# Altium schematic symbol library RF-UNIT.SchLib: 485 symbols (part 1 of 2)
Pins are listed as number, name and electrical type; pins without a type are passive.

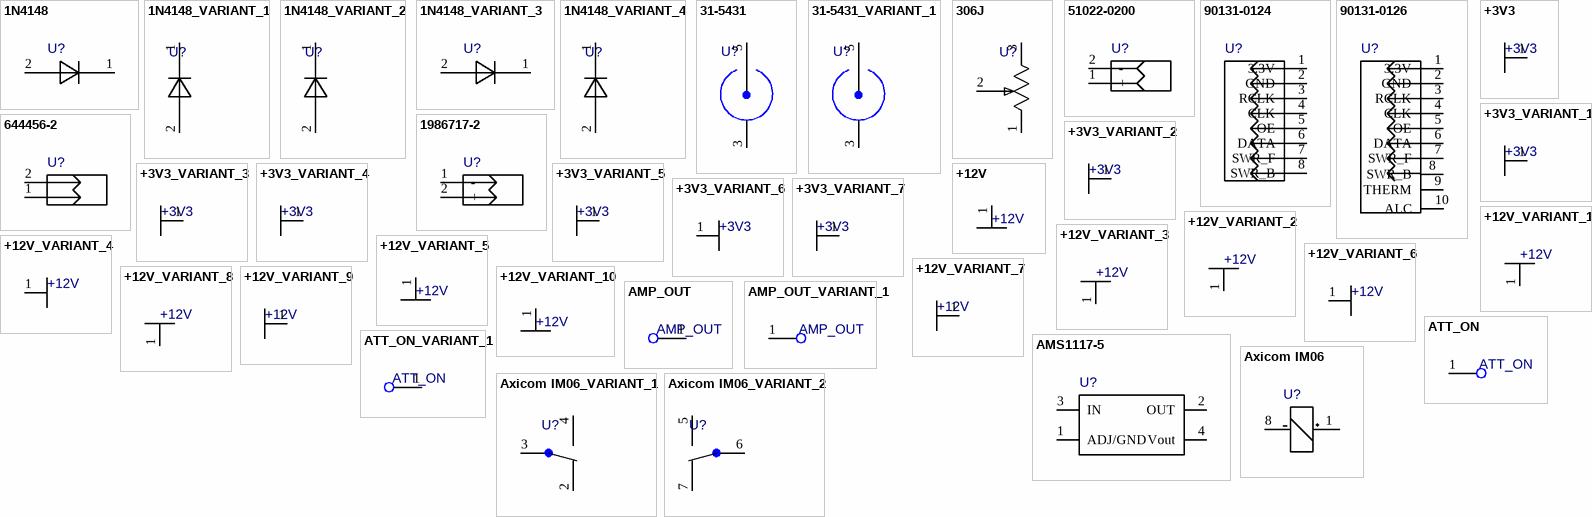
[diagram p0: symbols 1N4148 to Axicom IM06_VARIANT_2]

## 1N4148
designator U?  (value not drawn)
Value: *
footprint SS14
pins: 1 K, 2 A

## 1N4148_VARIANT_1
designator U?, comment 1N4148  (value not drawn)
1N4148_VARIANT_1; Value: *
footprint DIO_1206
pins: 1 K, 2 A

## 1N4148_VARIANT_2
designator U?, comment 1N4148  (value not drawn)
1N4148_VARIANT_2; Value: *
footprint DIO_1206
pins: 1 K, 2 A

## 1N4148_VARIANT_3
designator U?, comment 1N4148  (value not drawn)
1N4148_VARIANT_3; Value: *
footprint DIO_1206
pins: 1 K, 2 A

## 1N4148_VARIANT_4
designator U?, comment 1N4148  (value not drawn)
1N4148_VARIANT_4; Value: *
footprint DIO_1206
pins: 1 K, 2 A

## 31-5431
designator U?  (value not drawn)
Value: *
footprint 1053354-1
pins: 3 GND, 5 CON

## 31-5431_VARIANT_1
designator U?, comment 31-5431  (value not drawn)
31-5431_VARIANT_1; Value: *
footprint 1053354-1
pins: 3 GND, 5 CON

## 306J
designator U?  (value not drawn)
Value: *
footprint 306J
pins: 1 CCW, 2 W, 3 CW

## 51022-0200
designator U?  (value not drawn)
Value: *
footprint HDR-1x2T/2.54/5x2
pins: 1 +, 2 -

## 90131-0124
designator U?  (value not drawn)
Value: *
footprint HDR-2x4T/2.54x2.54/10x5
pins: 1 3.3V, 2 GND, 3 RCLK, 4 CLK, 5 OE, 6 DATA, 7 SWR_F, 8 SWR_B

## 90131-0126
designator U?  (value not drawn)
Value: *
footprint 90131-0126
pins: 1 3.3V, 2 GND, 3 RCLK, 4 CLK, 5 OE, 6 DATA, 7 SWR_F, 8 SWR_B, 9 THERM, 10 ALC

## 644456-2
designator U?  (value not drawn)
Value: *
footprint HDR-1x2T/2.54/5x2
pins: 1 P1, 2 P2

## 1986717-2
designator U?  (value not drawn)
Value: *
footprint TBH-1x2/3.81/8x3
pins: 1 -, 2 +

## +3V3
designator U?
Value: *
pins: 1 +3V3

## +3V3_VARIANT_1
designator U?, comment +3V3
+3V3_VARIANT_1; Value: *
pins: 1 +3V3

## +3V3_VARIANT_2
designator U?, comment +3V3
+3V3_VARIANT_2; Value: *
pins: 1 +3V3

## +3V3_VARIANT_3
designator U?, comment +3V3
+3V3_VARIANT_3; Value: *
pins: 1 +3V3

## +3V3_VARIANT_4
designator U?, comment +3V3
+3V3_VARIANT_4; Value: *
pins: 1 +3V3

## +3V3_VARIANT_5
designator U?, comment +3V3
+3V3_VARIANT_5; Value: *
pins: 1 +3V3

## +3V3_VARIANT_6
designator U?, comment +3V3
+3V3_VARIANT_6; Value: *
pins: 1 +3V3

## +3V3_VARIANT_7
designator U?, comment +3V3
+3V3_VARIANT_7; Value: *
pins: 1 +3V3

## +12V
designator U?
Value: *
pins: 1 +12V

## +12V_VARIANT_1
designator U?, comment +12V
+12V_VARIANT_1; Value: *
pins: 1 +12V

## +12V_VARIANT_2
designator U?, comment +12V
+12V_VARIANT_2; Value: *
pins: 1 +12V

## +12V_VARIANT_3
designator U?, comment +12V
+12V_VARIANT_3; Value: *
pins: 1 +12V

## +12V_VARIANT_4
designator U?, comment +12V
+12V_VARIANT_4; Value: *
pins: 1 +12V

## +12V_VARIANT_5
designator U?, comment +12V
+12V_VARIANT_5; Value: *
pins: 1 +12V

## +12V_VARIANT_6
designator U?, comment +12V
+12V_VARIANT_6; Value: *
pins: 1 +12V

## +12V_VARIANT_7
designator U?, comment +12V
+12V_VARIANT_7; Value: *
pins: 1 +12V

## +12V_VARIANT_8
designator U?, comment +12V
+12V_VARIANT_8; Value: *
pins: 1 +12V

## +12V_VARIANT_9
designator U?, comment +12V
+12V_VARIANT_9; Value: *
pins: 1 +12V

## +12V_VARIANT_10
designator U?, comment +12V
+12V_VARIANT_10; Value: *
pins: 1 +12V

## AMP_OUT
designator U?
Value: *
pins: 1

## AMP_OUT_VARIANT_1
designator U?, comment AMP_OUT
AMP_OUT_VARIANT_1; Value: *
pins: 1

## AMS1117-5
designator U?  (value not drawn)
Value: *
footprint SOT223-4
pins: 1 ADJ/GND, 2 OUT, 3 IN, 4 Vout

## ATT_ON
designator U?
Value: *
pins: 1

## ATT_ON_VARIANT_1
designator U?, comment ATT_ON
ATT_ON_VARIANT_1; Value: *
pins: 1

## Axicom IM06
designator U?  (value not drawn)
Value: *
footprint IM06
pins: 1 +, 8 -

## Axicom IM06_VARIANT_1
designator U?, comment Axicom IM06  (value not drawn)
Axicom IM06_VARIANT_1; Value: *
footprint IM06
pins: 2 O, 3 P, 4 S

## Axicom IM06_VARIANT_2
designator U?, comment Axicom IM06  (value not drawn)
Axicom IM06_VARIANT_2; Value: *
footprint IM06
pins: 5 S, 6 P, 7 O

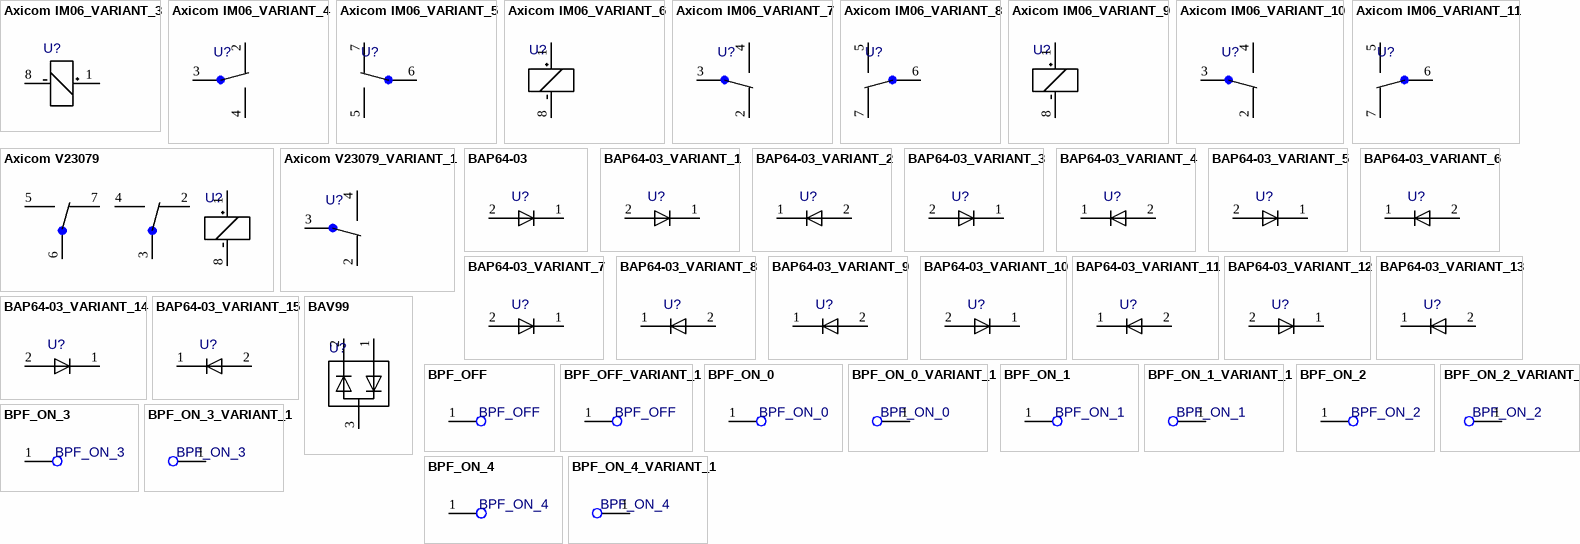
[diagram p1: symbols Axicom IM06_VARIANT_3 to BPF_ON_4_VARIANT_1]

## Axicom IM06_VARIANT_3
designator U?, comment Axicom IM06  (value not drawn)
Axicom IM06_VARIANT_3; Value: *
footprint IM06
pins: 1 +, 8 -

## Axicom IM06_VARIANT_4
designator U?, comment Axicom IM06  (value not drawn)
Axicom IM06_VARIANT_4; Value: *
footprint IM06
pins: 2 O, 3 P, 4 S

## Axicom IM06_VARIANT_5
designator U?, comment Axicom IM06  (value not drawn)
Axicom IM06_VARIANT_5; Value: *
footprint IM06
pins: 5 S, 6 P, 7 O

## Axicom IM06_VARIANT_6
designator U?, comment Axicom IM06  (value not drawn)
Axicom IM06_VARIANT_6; Value: *
footprint IM06
pins: 1 +, 8 -

## Axicom IM06_VARIANT_7
designator U?, comment Axicom IM06  (value not drawn)
Axicom IM06_VARIANT_7; Value: *
footprint IM06
pins: 2 O, 3 P, 4 S

## Axicom IM06_VARIANT_8
designator U?, comment Axicom IM06  (value not drawn)
Axicom IM06_VARIANT_8; Value: *
footprint IM06
pins: 5 S, 6 P, 7 O

## Axicom IM06_VARIANT_9
designator U?, comment Axicom IM06  (value not drawn)
Axicom IM06_VARIANT_9; Value: *
footprint IM06
pins: 1 +, 8 -

## Axicom IM06_VARIANT_10
designator U?, comment Axicom IM06  (value not drawn)
Axicom IM06_VARIANT_10; Value: *
footprint IM06
pins: 2 O, 3 P, 4 S

## Axicom IM06_VARIANT_11
designator U?, comment Axicom IM06  (value not drawn)
Axicom IM06_VARIANT_11; Value: *
footprint IM06
pins: 5 S, 6 P, 7 O

## Axicom V23079
designator U?  (value not drawn)
Value: *
footprint V23079
pins: 1 +, 2 O, 3 P, 4 S, 5 S, 6 P, 7 O, 8 -

## Axicom V23079_VARIANT_1
designator U?, comment Axicom V23079  (value not drawn)
Axicom V23079_VARIANT_1; Value: *
footprint V23079
pins: 2 O, 3 P, 4 S

## BAP64-03
designator U?  (value not drawn)
Value: *
footprint SOD-323
pins: 1 (C), 2 (A)

## BAP64-03_VARIANT_1
designator U?, comment BAP64-03  (value not drawn)
BAP64-03_VARIANT_1; Value: *
footprint SOD-323
pins: 1 (C), 2 (A)

## BAP64-03_VARIANT_2
designator U?, comment BAP64-03  (value not drawn)
BAP64-03_VARIANT_2; Value: *
footprint SOD-323
pins: 1 (C), 2 (A)

## BAP64-03_VARIANT_3
designator U?, comment BAP64-03  (value not drawn)
BAP64-03_VARIANT_3; Value: *
footprint SOD-323
pins: 1 (C), 2 (A)

## BAP64-03_VARIANT_4
designator U?, comment BAP64-03  (value not drawn)
BAP64-03_VARIANT_4; Value: *
footprint SOD-323
pins: 1 (C), 2 (A)

## BAP64-03_VARIANT_5
designator U?, comment BAP64-03  (value not drawn)
BAP64-03_VARIANT_5; Value: *
footprint SOD-323
pins: 1 (C), 2 (A)

## BAP64-03_VARIANT_6
designator U?, comment BAP64-03  (value not drawn)
BAP64-03_VARIANT_6; Value: *
footprint SOD-323
pins: 1 (C), 2 (A)

## BAP64-03_VARIANT_7
designator U?, comment BAP64-03  (value not drawn)
BAP64-03_VARIANT_7; Value: *
footprint SOD-323
pins: 1 (C), 2 (A)

## BAP64-03_VARIANT_8
designator U?, comment BAP64-03  (value not drawn)
BAP64-03_VARIANT_8; Value: *
footprint SOD-323
pins: 1 (C), 2 (A)

## BAP64-03_VARIANT_9
designator U?, comment BAP64-03  (value not drawn)
BAP64-03_VARIANT_9; Value: *
footprint SOD-323
pins: 1 (C), 2 (A)

## BAP64-03_VARIANT_10
designator U?, comment BAP64-03  (value not drawn)
BAP64-03_VARIANT_10; Value: *
footprint SOD-323
pins: 1 (C), 2 (A)

## BAP64-03_VARIANT_11
designator U?, comment BAP64-03  (value not drawn)
BAP64-03_VARIANT_11; Value: *
footprint SOD-323
pins: 1 (C), 2 (A)

## BAP64-03_VARIANT_12
designator U?, comment BAP64-03  (value not drawn)
BAP64-03_VARIANT_12; Value: *
footprint SOD-323
pins: 1 (C), 2 (A)

## BAP64-03_VARIANT_13
designator U?, comment BAP64-03  (value not drawn)
BAP64-03_VARIANT_13; Value: *
footprint SOD-323
pins: 1 (C), 2 (A)

## BAP64-03_VARIANT_14
designator U?, comment BAP64-03  (value not drawn)
BAP64-03_VARIANT_14; Value: *
footprint SOD-323
pins: 1 (C), 2 (A)

## BAP64-03_VARIANT_15
designator U?, comment BAP64-03  (value not drawn)
BAP64-03_VARIANT_15; Value: *
footprint SOD-323
pins: 1 (C), 2 (A)

## BAV99
designator U?  (value not drawn)
Value: *
footprint SOT23
pins: 1 A(D1), 2 C(D2), 3 C(D1),A(D2)

## BPF_OFF
designator U?
Value: *
pins: 1

## BPF_OFF_VARIANT_1
designator U?, comment BPF_OFF
BPF_OFF_VARIANT_1; Value: *
pins: 1

## BPF_ON_0
designator U?
Value: *
pins: 1

## BPF_ON_0_VARIANT_1
designator U?, comment BPF_ON_0
BPF_ON_0_VARIANT_1; Value: *
pins: 1

## BPF_ON_1
designator U?
Value: *
pins: 1

## BPF_ON_1_VARIANT_1
designator U?, comment BPF_ON_1
BPF_ON_1_VARIANT_1; Value: *
pins: 1

## BPF_ON_2
designator U?
Value: *
pins: 1

## BPF_ON_2_VARIANT_1
designator U?, comment BPF_ON_2
BPF_ON_2_VARIANT_1; Value: *
pins: 1

## BPF_ON_3
designator U?
Value: *
pins: 1

## BPF_ON_3_VARIANT_1
designator U?, comment BPF_ON_3
BPF_ON_3_VARIANT_1; Value: *
pins: 1

## BPF_ON_4
designator U?
Value: *
pins: 1

## BPF_ON_4_VARIANT_1
designator U?, comment BPF_ON_4
BPF_ON_4_VARIANT_1; Value: *
pins: 1

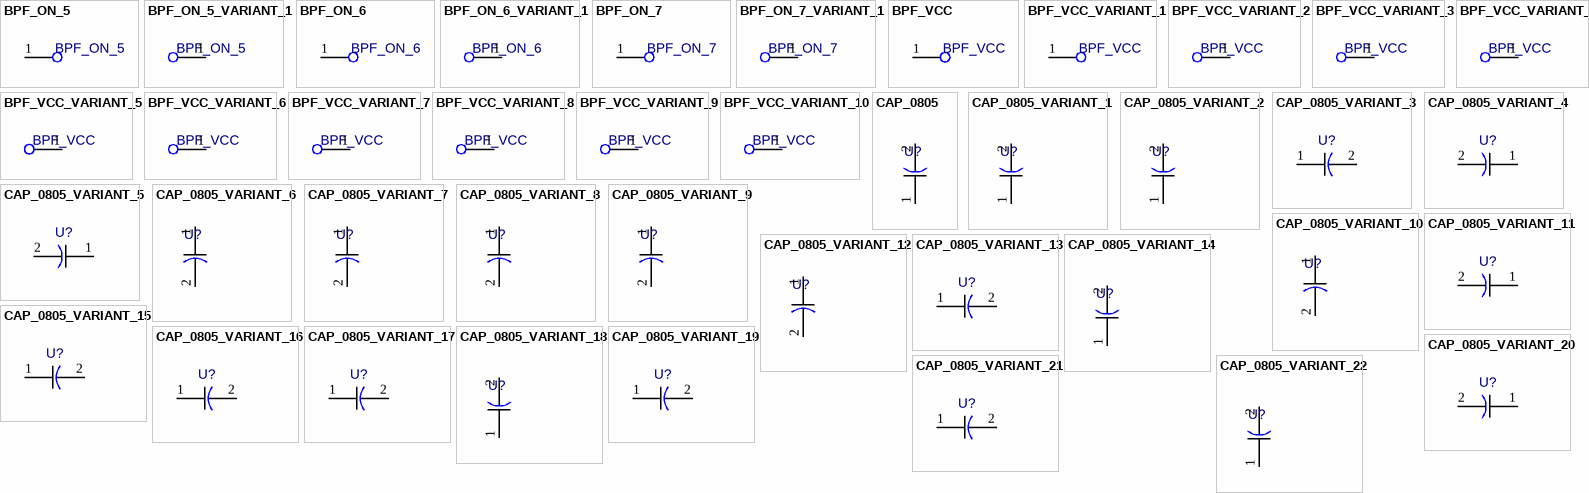
[diagram p2: symbols BPF_ON_5 to CAP_0805_VARIANT_22]

## BPF_ON_5
designator U?
Value: *
pins: 1

## BPF_ON_5_VARIANT_1
designator U?, comment BPF_ON_5
BPF_ON_5_VARIANT_1; Value: *
pins: 1

## BPF_ON_6
designator U?
Value: *
pins: 1

## BPF_ON_6_VARIANT_1
designator U?, comment BPF_ON_6
BPF_ON_6_VARIANT_1; Value: *
pins: 1

## BPF_ON_7
designator U?
Value: *
pins: 1

## BPF_ON_7_VARIANT_1
designator U?, comment BPF_ON_7
BPF_ON_7_VARIANT_1; Value: *
pins: 1

## BPF_VCC
designator U?
Value: *
pins: 1

## BPF_VCC_VARIANT_1
designator U?, comment BPF_VCC
BPF_VCC_VARIANT_1; Value: *
pins: 1

## BPF_VCC_VARIANT_2
designator U?, comment BPF_VCC
BPF_VCC_VARIANT_2; Value: *
pins: 1

## BPF_VCC_VARIANT_3
designator U?, comment BPF_VCC
BPF_VCC_VARIANT_3; Value: *
pins: 1

## BPF_VCC_VARIANT_4
designator U?, comment BPF_VCC
BPF_VCC_VARIANT_4; Value: *
pins: 1

## BPF_VCC_VARIANT_5
designator U?, comment BPF_VCC
BPF_VCC_VARIANT_5; Value: *
pins: 1

## BPF_VCC_VARIANT_6
designator U?, comment BPF_VCC
BPF_VCC_VARIANT_6; Value: *
pins: 1

## BPF_VCC_VARIANT_7
designator U?, comment BPF_VCC
BPF_VCC_VARIANT_7; Value: *
pins: 1

## BPF_VCC_VARIANT_8
designator U?, comment BPF_VCC
BPF_VCC_VARIANT_8; Value: *
pins: 1

## BPF_VCC_VARIANT_9
designator U?, comment BPF_VCC
BPF_VCC_VARIANT_9; Value: *
pins: 1

## BPF_VCC_VARIANT_10
designator U?, comment BPF_VCC
BPF_VCC_VARIANT_10; Value: *
pins: 1

## CAP_0805
designator U?  (value not drawn)
Value: *
footprint CAP_0805
pins: 1, 2

## CAP_0805_VARIANT_1
designator U?, comment CAP_0805  (value not drawn)
CAP_0805_VARIANT_1; Value: *
footprint CAP_0805
pins: 1, 2

## CAP_0805_VARIANT_2
designator U?, comment CAP_0805  (value not drawn)
CAP_0805_VARIANT_2; Value: *
footprint CAP_0805
pins: 1, 2

## CAP_0805_VARIANT_3
designator U?, comment CAP_0805  (value not drawn)
CAP_0805_VARIANT_3; Value: *
footprint CAP_0805
pins: 1, 2

## CAP_0805_VARIANT_4
designator U?, comment CAP_0805  (value not drawn)
CAP_0805_VARIANT_4; Value: *
footprint RES_0805
pins: 1, 2

## CAP_0805_VARIANT_5
designator U?, comment CAP_0805  (value not drawn)
CAP_0805_VARIANT_5; Value: *
footprint CAP_0805
pins: 1, 2

## CAP_0805_VARIANT_6
designator U?, comment CAP_0805  (value not drawn)
CAP_0805_VARIANT_6; Value: *
footprint CAP_0805
pins: 1, 2

## CAP_0805_VARIANT_7
designator U?, comment CAP_0805  (value not drawn)
CAP_0805_VARIANT_7; Value: *
footprint CAP_0805
pins: 1, 2

## CAP_0805_VARIANT_8
designator U?, comment CAP_0805  (value not drawn)
CAP_0805_VARIANT_8; Value: *
footprint CAP_0805
pins: 1, 2

## CAP_0805_VARIANT_9
designator U?, comment CAP_0805  (value not drawn)
CAP_0805_VARIANT_9; Value: *
footprint CAP_0805
pins: 1, 2

## CAP_0805_VARIANT_10
designator U?, comment CAP_0805  (value not drawn)
CAP_0805_VARIANT_10; Value: *
footprint CAP_0805
pins: 1, 2

## CAP_0805_VARIANT_11
designator U?, comment CAP_0805  (value not drawn)
CAP_0805_VARIANT_11; Value: *
footprint CAP_0805
pins: 1, 2

## CAP_0805_VARIANT_12
designator U?, comment CAP_0805  (value not drawn)
CAP_0805_VARIANT_12; Value: *
footprint CAP_0805
pins: 1, 2

## CAP_0805_VARIANT_13
designator U?, comment CAP_0805  (value not drawn)
CAP_0805_VARIANT_13; Value: *
footprint CAP_0805
pins: 1, 2

## CAP_0805_VARIANT_14
designator U?, comment CAP_0805  (value not drawn)
CAP_0805_VARIANT_14; Value: *
footprint CAP_0805
pins: 1, 2

## CAP_0805_VARIANT_15
designator U?, comment CAP_0805  (value not drawn)
CAP_0805_VARIANT_15; Value: *
footprint CAP_0805
pins: 1, 2

## CAP_0805_VARIANT_16
designator U?, comment CAP_0805  (value not drawn)
CAP_0805_VARIANT_16; Value: *
footprint CAP_0805
pins: 1, 2

## CAP_0805_VARIANT_17
designator U?, comment CAP_0805  (value not drawn)
CAP_0805_VARIANT_17; Value: *
footprint CAP_0805
pins: 1, 2

## CAP_0805_VARIANT_18
designator U?, comment CAP_0805  (value not drawn)
CAP_0805_VARIANT_18; Value: *
footprint CAP_0805
pins: 1, 2

## CAP_0805_VARIANT_19
designator U?, comment CAP_0805  (value not drawn)
CAP_0805_VARIANT_19; Value: *
footprint CAP_0805
pins: 1, 2

## CAP_0805_VARIANT_20
designator U?, comment CAP_0805  (value not drawn)
CAP_0805_VARIANT_20; Value: *
footprint CAP_0805
pins: 1, 2

## CAP_0805_VARIANT_21
designator U?, comment CAP_0805  (value not drawn)
CAP_0805_VARIANT_21; Value: *
footprint CAP_0805
pins: 1, 2

## CAP_0805_VARIANT_22
designator U?, comment CAP_0805  (value not drawn)
CAP_0805_VARIANT_22; Value: *
footprint CAP_0805
pins: 1, 2

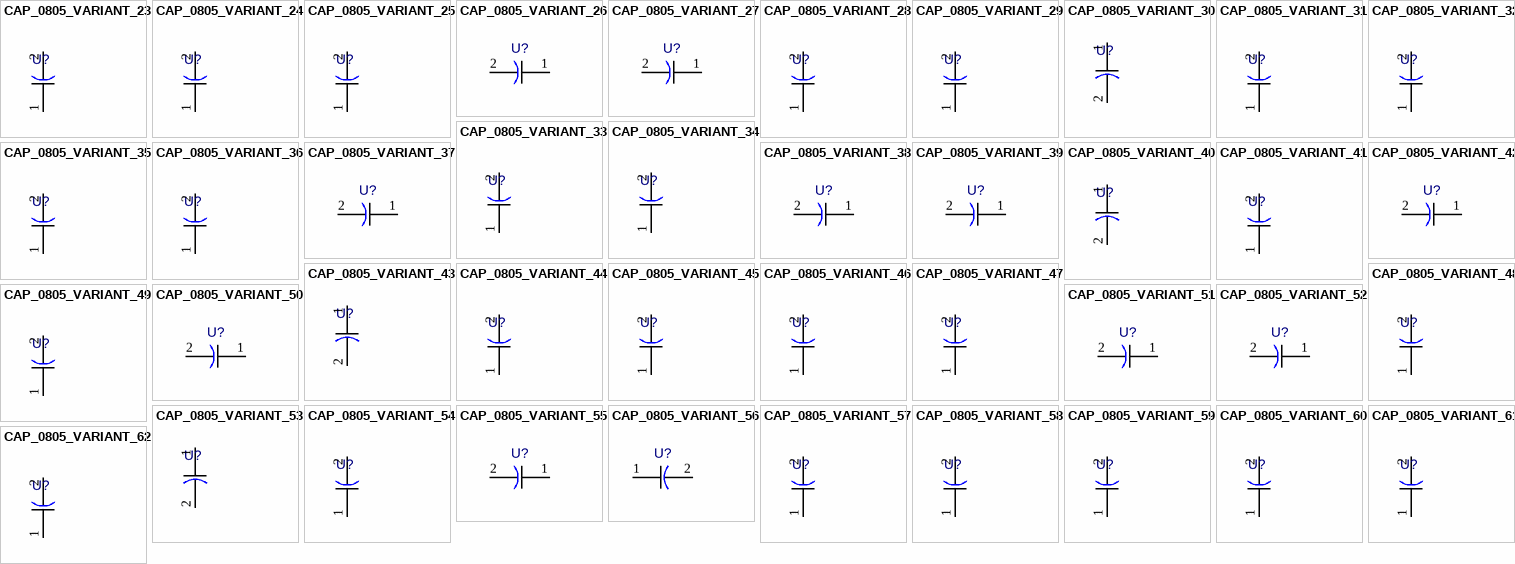
[diagram p3: symbols CAP_0805_VARIANT_23 to CAP_0805_VARIANT_62]

## CAP_0805_VARIANT_23
designator U?, comment CAP_0805  (value not drawn)
CAP_0805_VARIANT_23; Value: *
footprint CAP_0805
pins: 1, 2

## CAP_0805_VARIANT_24
designator U?, comment CAP_0805  (value not drawn)
CAP_0805_VARIANT_24; Value: *
footprint CAP_0805
pins: 1, 2

## CAP_0805_VARIANT_25
designator U?, comment CAP_0805  (value not drawn)
CAP_0805_VARIANT_25; Value: *
footprint CAP_0805
pins: 1, 2

## CAP_0805_VARIANT_26
designator U?, comment CAP_0805  (value not drawn)
CAP_0805_VARIANT_26; Value: *
footprint CAP_0805
pins: 1, 2

## CAP_0805_VARIANT_27
designator U?, comment CAP_0805  (value not drawn)
CAP_0805_VARIANT_27; Value: *
footprint CAP_0805
pins: 1, 2

## CAP_0805_VARIANT_28
designator U?, comment CAP_0805  (value not drawn)
CAP_0805_VARIANT_28; Value: *
footprint CAP_0805
pins: 1, 2

## CAP_0805_VARIANT_29
designator U?, comment CAP_0805  (value not drawn)
CAP_0805_VARIANT_29; Value: *
footprint CAP_0805
pins: 1, 2

## CAP_0805_VARIANT_30
designator U?, comment CAP_0805  (value not drawn)
CAP_0805_VARIANT_30; Value: *
footprint CAP_0805
pins: 1, 2

## CAP_0805_VARIANT_31
designator U?, comment CAP_0805  (value not drawn)
CAP_0805_VARIANT_31; Value: *
footprint CAP_0805
pins: 1, 2

## CAP_0805_VARIANT_32
designator U?, comment CAP_0805  (value not drawn)
CAP_0805_VARIANT_32; Value: *
footprint CAP_0805
pins: 1, 2

## CAP_0805_VARIANT_33
designator U?, comment CAP_0805  (value not drawn)
CAP_0805_VARIANT_33; Value: *
footprint CAP_0805
pins: 1, 2

## CAP_0805_VARIANT_34
designator U?, comment CAP_0805  (value not drawn)
CAP_0805_VARIANT_34; Value: *
footprint CAP_0805
pins: 1, 2

## CAP_0805_VARIANT_35
designator U?, comment CAP_0805  (value not drawn)
CAP_0805_VARIANT_35; Value: *
footprint CAP_0805
pins: 1, 2

## CAP_0805_VARIANT_36
designator U?, comment CAP_0805  (value not drawn)
CAP_0805_VARIANT_36; Value: *
footprint CAP_0805
pins: 1, 2

## CAP_0805_VARIANT_37
designator U?, comment CAP_0805  (value not drawn)
CAP_0805_VARIANT_37; Value: *
footprint CAP_0805
pins: 1, 2

## CAP_0805_VARIANT_38
designator U?, comment CAP_0805  (value not drawn)
CAP_0805_VARIANT_38; Value: *
footprint CAP_0805
pins: 1, 2

## CAP_0805_VARIANT_39
designator U?, comment CAP_0805  (value not drawn)
CAP_0805_VARIANT_39; Value: *
footprint CAP_0805
pins: 1, 2

## CAP_0805_VARIANT_40
designator U?, comment CAP_0805  (value not drawn)
CAP_0805_VARIANT_40; Value: *
footprint CAP_0805
pins: 1, 2

## CAP_0805_VARIANT_41
designator U?, comment CAP_0805  (value not drawn)
CAP_0805_VARIANT_41; Value: *
footprint CAP_0805
pins: 1, 2

## CAP_0805_VARIANT_42
designator U?, comment CAP_0805  (value not drawn)
CAP_0805_VARIANT_42; Value: *
footprint CAP_0805
pins: 1, 2

## CAP_0805_VARIANT_43
designator U?, comment CAP_0805  (value not drawn)
CAP_0805_VARIANT_43; Value: *
footprint CAP_0805
pins: 1, 2

## CAP_0805_VARIANT_44
designator U?, comment CAP_0805  (value not drawn)
CAP_0805_VARIANT_44; Value: *
footprint CAP_0805
pins: 1, 2

## CAP_0805_VARIANT_45
designator U?, comment CAP_0805  (value not drawn)
CAP_0805_VARIANT_45; Value: *
footprint CAP_0805
pins: 1, 2

## CAP_0805_VARIANT_46
designator U?, comment CAP_0805  (value not drawn)
CAP_0805_VARIANT_46; Value: *
footprint CAP_0805
pins: 1, 2

## CAP_0805_VARIANT_47
designator U?, comment CAP_0805  (value not drawn)
CAP_0805_VARIANT_47; Value: *
footprint CAP_0805
pins: 1, 2

## CAP_0805_VARIANT_48
designator U?, comment CAP_0805  (value not drawn)
CAP_0805_VARIANT_48; Value: *
footprint CAP_0805
pins: 1, 2

## CAP_0805_VARIANT_49
designator U?, comment CAP_0805  (value not drawn)
CAP_0805_VARIANT_49; Value: *
footprint CAP_0805
pins: 1, 2

## CAP_0805_VARIANT_50
designator U?, comment CAP_0805  (value not drawn)
CAP_0805_VARIANT_50; Value: *
footprint CAP_0805
pins: 1, 2

## CAP_0805_VARIANT_51
designator U?, comment CAP_0805  (value not drawn)
CAP_0805_VARIANT_51; Value: *
footprint CAP_0805
pins: 1, 2

## CAP_0805_VARIANT_52
designator U?, comment CAP_0805  (value not drawn)
CAP_0805_VARIANT_52; Value: *
footprint CAP_0805
pins: 1, 2

## CAP_0805_VARIANT_53
designator U?, comment CAP_0805  (value not drawn)
CAP_0805_VARIANT_53; Value: *
footprint CAP_0805
pins: 1, 2

## CAP_0805_VARIANT_54
designator U?, comment CAP_0805  (value not drawn)
CAP_0805_VARIANT_54; Value: *
footprint CAP_0805
pins: 1, 2

## CAP_0805_VARIANT_55
designator U?, comment CAP_0805  (value not drawn)
CAP_0805_VARIANT_55; Value: *
footprint CAP_0805
pins: 1, 2

## CAP_0805_VARIANT_56
designator U?, comment CAP_0805  (value not drawn)
CAP_0805_VARIANT_56; Value: *
footprint CAP_0805
pins: 1, 2

## CAP_0805_VARIANT_57
designator U?, comment CAP_0805  (value not drawn)
CAP_0805_VARIANT_57; Value: *
footprint CAP_0805
pins: 1, 2

## CAP_0805_VARIANT_58
designator U?, comment CAP_0805  (value not drawn)
CAP_0805_VARIANT_58; Value: *
footprint CAP_0805
pins: 1, 2

## CAP_0805_VARIANT_59
designator U?, comment CAP_0805  (value not drawn)
CAP_0805_VARIANT_59; Value: *
footprint CAP_0805
pins: 1, 2

## CAP_0805_VARIANT_60
designator U?, comment CAP_0805  (value not drawn)
CAP_0805_VARIANT_60; Value: *
footprint CAP_0805
pins: 1, 2

## CAP_0805_VARIANT_61
designator U?, comment CAP_0805  (value not drawn)
CAP_0805_VARIANT_61; Value: *
footprint CAP_0805
pins: 1, 2

## CAP_0805_VARIANT_62
designator U?, comment CAP_0805  (value not drawn)
CAP_0805_VARIANT_62; Value: *
footprint CAP_0805
pins: 1, 2

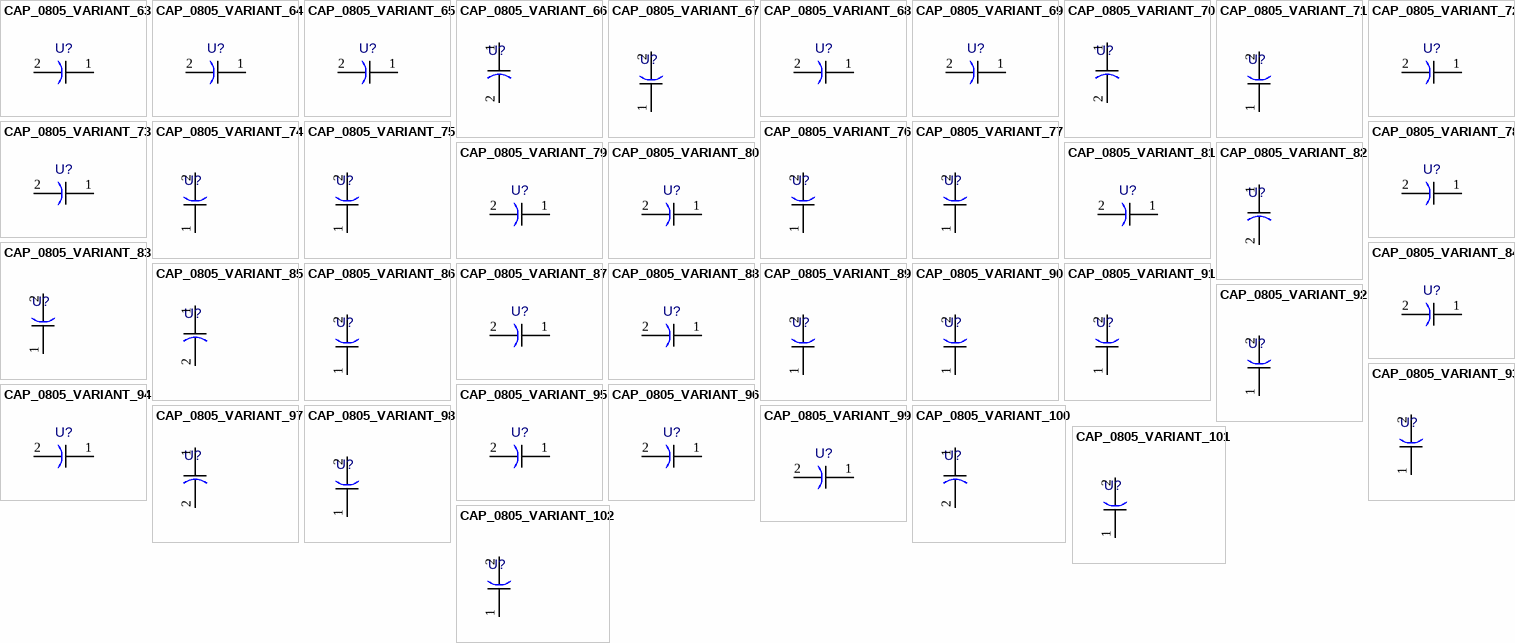
[diagram p4: symbols CAP_0805_VARIANT_63 to CAP_0805_VARIANT_102]

## CAP_0805_VARIANT_63
designator U?, comment CAP_0805  (value not drawn)
CAP_0805_VARIANT_63; Value: *
footprint CAP_0805
pins: 1, 2

## CAP_0805_VARIANT_64
designator U?, comment CAP_0805  (value not drawn)
CAP_0805_VARIANT_64; Value: *
footprint CAP_0805
pins: 1, 2

## CAP_0805_VARIANT_65
designator U?, comment CAP_0805  (value not drawn)
CAP_0805_VARIANT_65; Value: *
footprint CAP_0805
pins: 1, 2

## CAP_0805_VARIANT_66
designator U?, comment CAP_0805  (value not drawn)
CAP_0805_VARIANT_66; Value: *
footprint CAP_0805
pins: 1, 2

## CAP_0805_VARIANT_67
designator U?, comment CAP_0805  (value not drawn)
CAP_0805_VARIANT_67; Value: *
footprint CAP_0805
pins: 1, 2

## CAP_0805_VARIANT_68
designator U?, comment CAP_0805  (value not drawn)
CAP_0805_VARIANT_68; Value: *
footprint CAP_0805
pins: 1, 2

## CAP_0805_VARIANT_69
designator U?, comment CAP_0805  (value not drawn)
CAP_0805_VARIANT_69; Value: *
footprint CAP_0805
pins: 1, 2

## CAP_0805_VARIANT_70
designator U?, comment CAP_0805  (value not drawn)
CAP_0805_VARIANT_70; Value: *
footprint CAP_0805
pins: 1, 2

## CAP_0805_VARIANT_71
designator U?, comment CAP_0805  (value not drawn)
CAP_0805_VARIANT_71; Value: *
footprint CAP_0805
pins: 1, 2

## CAP_0805_VARIANT_72
designator U?, comment CAP_0805  (value not drawn)
CAP_0805_VARIANT_72; Value: *
footprint CAP_0805
pins: 1, 2

## CAP_0805_VARIANT_73
designator U?, comment CAP_0805  (value not drawn)
CAP_0805_VARIANT_73; Value: *
footprint CAP_0805
pins: 1, 2

## CAP_0805_VARIANT_74
designator U?, comment CAP_0805  (value not drawn)
CAP_0805_VARIANT_74; Value: *
footprint CAP_0805
pins: 1, 2

## CAP_0805_VARIANT_75
designator U?, comment CAP_0805  (value not drawn)
CAP_0805_VARIANT_75; Value: *
footprint CAP_0805
pins: 1, 2

## CAP_0805_VARIANT_76
designator U?, comment CAP_0805  (value not drawn)
CAP_0805_VARIANT_76; Value: *
footprint CAP_0805
pins: 1, 2

## CAP_0805_VARIANT_77
designator U?, comment CAP_0805  (value not drawn)
CAP_0805_VARIANT_77; Value: *
footprint CAP_0805
pins: 1, 2

## CAP_0805_VARIANT_78
designator U?, comment CAP_0805  (value not drawn)
CAP_0805_VARIANT_78; Value: *
footprint CAP_0805
pins: 1, 2

## CAP_0805_VARIANT_79
designator U?, comment CAP_0805  (value not drawn)
CAP_0805_VARIANT_79; Value: *
footprint CAP_0805
pins: 1, 2

## CAP_0805_VARIANT_80
designator U?, comment CAP_0805  (value not drawn)
CAP_0805_VARIANT_80; Value: *
footprint CAP_0805
pins: 1, 2

## CAP_0805_VARIANT_81
designator U?, comment CAP_0805  (value not drawn)
CAP_0805_VARIANT_81; Value: *
footprint CAP_0805
pins: 1, 2

## CAP_0805_VARIANT_82
designator U?, comment CAP_0805  (value not drawn)
CAP_0805_VARIANT_82; Value: *
footprint CAP_0805
pins: 1, 2

## CAP_0805_VARIANT_83
designator U?, comment CAP_0805  (value not drawn)
CAP_0805_VARIANT_83; Value: *
footprint CAP_0805
pins: 1, 2

## CAP_0805_VARIANT_84
designator U?, comment CAP_0805  (value not drawn)
CAP_0805_VARIANT_84; Value: *
footprint CAP_0805
pins: 1, 2

## CAP_0805_VARIANT_85
designator U?, comment CAP_0805  (value not drawn)
CAP_0805_VARIANT_85; Value: *
footprint CAP_0805
pins: 1, 2

## CAP_0805_VARIANT_86
designator U?, comment CAP_0805  (value not drawn)
CAP_0805_VARIANT_86; Value: *
footprint CAP_0805
pins: 1, 2

## CAP_0805_VARIANT_87
designator U?, comment CAP_0805  (value not drawn)
CAP_0805_VARIANT_87; Value: *
footprint CAP_0805
pins: 1, 2

## CAP_0805_VARIANT_88
designator U?, comment CAP_0805  (value not drawn)
CAP_0805_VARIANT_88; Value: *
footprint CAP_0805
pins: 1, 2

## CAP_0805_VARIANT_89
designator U?, comment CAP_0805  (value not drawn)
CAP_0805_VARIANT_89; Value: *
footprint CAP_0805
pins: 1, 2

## CAP_0805_VARIANT_90
designator U?, comment CAP_0805  (value not drawn)
CAP_0805_VARIANT_90; Value: *
footprint CAP_0805
pins: 1, 2

## CAP_0805_VARIANT_91
designator U?, comment CAP_0805  (value not drawn)
CAP_0805_VARIANT_91; Value: *
footprint CAP_0805
pins: 1, 2

## CAP_0805_VARIANT_92
designator U?, comment CAP_0805  (value not drawn)
CAP_0805_VARIANT_92; Value: *
footprint CAP_0805
pins: 1, 2

## CAP_0805_VARIANT_93
designator U?, comment CAP_0805  (value not drawn)
CAP_0805_VARIANT_93; Value: *
footprint CAP_0805
pins: 1, 2

## CAP_0805_VARIANT_94
designator U?, comment CAP_0805  (value not drawn)
CAP_0805_VARIANT_94; Value: *
footprint CAP_0805
pins: 1, 2

## CAP_0805_VARIANT_95
designator U?, comment CAP_0805  (value not drawn)
CAP_0805_VARIANT_95; Value: *
footprint CAP_0805
pins: 1, 2

## CAP_0805_VARIANT_96
designator U?, comment CAP_0805  (value not drawn)
CAP_0805_VARIANT_96; Value: *
footprint CAP_0805
pins: 1, 2

## CAP_0805_VARIANT_97
designator U?, comment CAP_0805  (value not drawn)
CAP_0805_VARIANT_97; Value: *
footprint CAP_0805
pins: 1, 2

## CAP_0805_VARIANT_98
designator U?, comment CAP_0805  (value not drawn)
CAP_0805_VARIANT_98; Value: *
footprint CAP_0805
pins: 1, 2

## CAP_0805_VARIANT_99
designator U?, comment CAP_0805  (value not drawn)
CAP_0805_VARIANT_99; Value: *
footprint CAP_0805
pins: 1, 2

## CAP_0805_VARIANT_100
designator U?, comment CAP_0805  (value not drawn)
CAP_0805_VARIANT_100; Value: *
footprint CAP_0805
pins: 1, 2

## CAP_0805_VARIANT_101
designator U?, comment CAP_0805  (value not drawn)
CAP_0805_VARIANT_101; Value: *
footprint CAP_0805
pins: 1, 2

## CAP_0805_VARIANT_102
designator U?, comment CAP_0805  (value not drawn)
CAP_0805_VARIANT_102; Value: *
footprint CAP_0805
pins: 1, 2

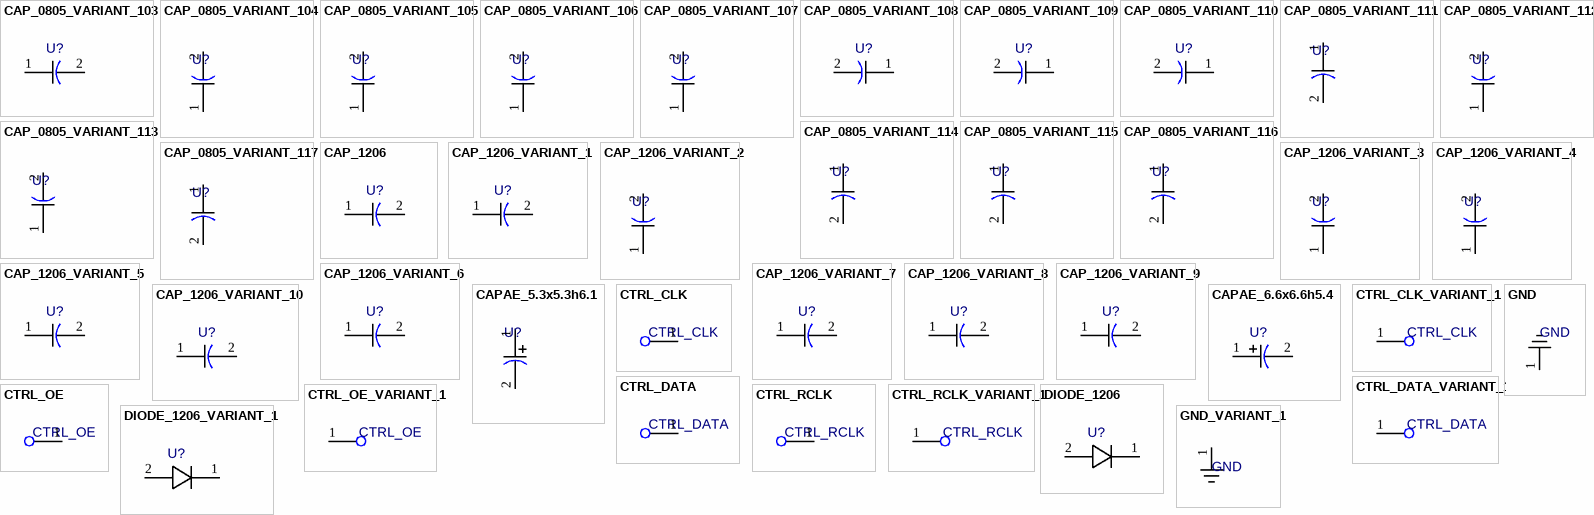
[diagram p5: symbols CAP_0805_VARIANT_103 to GND_VARIANT_1]

## CAP_0805_VARIANT_103
designator U?, comment CAP_0805  (value not drawn)
CAP_0805_VARIANT_103; Value: *
footprint CAP_0805
pins: 1, 2

## CAP_0805_VARIANT_104
designator U?, comment CAP_0805  (value not drawn)
CAP_0805_VARIANT_104; Value: *
footprint CAP_0805
pins: 1, 2

## CAP_0805_VARIANT_105
designator U?, comment CAP_0805  (value not drawn)
CAP_0805_VARIANT_105; Value: *
footprint CAP_0805
pins: 1, 2

## CAP_0805_VARIANT_106
designator U?, comment CAP_0805  (value not drawn)
CAP_0805_VARIANT_106; Value: *
footprint CAP_0805
pins: 1, 2

## CAP_0805_VARIANT_107
designator U?, comment CAP_0805  (value not drawn)
CAP_0805_VARIANT_107; Value: *
footprint CAP_0805
pins: 1, 2

## CAP_0805_VARIANT_108
designator U?, comment CAP_0805  (value not drawn)
CAP_0805_VARIANT_108; Value: *
footprint CAP_0805
pins: 1, 2

## CAP_0805_VARIANT_109
designator U?, comment CAP_0805  (value not drawn)
CAP_0805_VARIANT_109; Value: *
footprint CAP_0805
pins: 1, 2

## CAP_0805_VARIANT_110
designator U?, comment CAP_0805  (value not drawn)
CAP_0805_VARIANT_110; Value: *
footprint CAP_0805
pins: 1, 2

## CAP_0805_VARIANT_111
designator U?, comment CAP_0805  (value not drawn)
CAP_0805_VARIANT_111; Value: *
footprint CAP_0805
pins: 1, 2

## CAP_0805_VARIANT_112
designator U?, comment CAP_0805  (value not drawn)
CAP_0805_VARIANT_112; Value: *
footprint CAP_0805
pins: 1, 2

## CAP_0805_VARIANT_113
designator U?, comment CAP_0805  (value not drawn)
CAP_0805_VARIANT_113; Value: *
footprint CAP_0805
pins: 1, 2

## CAP_0805_VARIANT_114
designator U?, comment CAP_0805  (value not drawn)
CAP_0805_VARIANT_114; Value: *
footprint CAP_0805
pins: 1, 2

## CAP_0805_VARIANT_115
designator U?, comment CAP_0805  (value not drawn)
CAP_0805_VARIANT_115; Value: *
footprint CAP_0805
pins: 1, 2

## CAP_0805_VARIANT_116
designator U?, comment CAP_0805  (value not drawn)
CAP_0805_VARIANT_116; Value: *
footprint CAP_0805
pins: 1, 2

## CAP_0805_VARIANT_117
designator U?, comment CAP_0805  (value not drawn)
CAP_0805_VARIANT_117; Value: *
footprint CAP_0805
pins: 1, 2

## CAP_1206
designator U?  (value not drawn)
Value: *
footprint CAP_1206
pins: 1, 2

## CAP_1206_VARIANT_1
designator U?, comment CAP_1206  (value not drawn)
CAP_1206_VARIANT_1; Value: *
footprint CAP_1206
pins: 1, 2

## CAP_1206_VARIANT_2
designator U?, comment CAP_1206  (value not drawn)
CAP_1206_VARIANT_2; Value: *
footprint CAP_1206
pins: 1, 2

## CAP_1206_VARIANT_3
designator U?, comment CAP_1206  (value not drawn)
CAP_1206_VARIANT_3; Value: *
footprint CAP_1206
pins: 1, 2

## CAP_1206_VARIANT_4
designator U?, comment CAP_1206  (value not drawn)
CAP_1206_VARIANT_4; Value: *
footprint CAP_1206
pins: 1, 2

## CAP_1206_VARIANT_5
designator U?, comment CAP_1206  (value not drawn)
CAP_1206_VARIANT_5; Value: *
footprint CAP_1206
pins: 1, 2

## CAP_1206_VARIANT_6
designator U?, comment CAP_1206  (value not drawn)
CAP_1206_VARIANT_6; Value: *
footprint CAP_1206
pins: 1, 2

## CAP_1206_VARIANT_7
designator U?, comment CAP_1206  (value not drawn)
CAP_1206_VARIANT_7; Value: *
footprint CAP_1206
pins: 1, 2

## CAP_1206_VARIANT_8
designator U?, comment CAP_1206  (value not drawn)
CAP_1206_VARIANT_8; Value: *
footprint CAP_1206
pins: 1, 2

## CAP_1206_VARIANT_9
designator U?, comment CAP_1206  (value not drawn)
CAP_1206_VARIANT_9; Value: *
footprint CAP_1206
pins: 1, 2

## CAP_1206_VARIANT_10
designator U?, comment CAP_1206  (value not drawn)
CAP_1206_VARIANT_10; Value: *
footprint CAP_1206
pins: 1, 2

## CAPAE_5.3x5.3h6.1
designator U?  (value not drawn)
Value: *
footprint TC_2413
pins: 1 PLUS, 2 MINUS

## CAPAE_6.6x6.6h5.4
designator U?  (value not drawn)
Value: *
footprint CAPAE-6.6x6.6h5.4
pins: 1 PLUS, 2 MINUS

## CTRL_CLK
designator U?
Value: *
pins: 1

## CTRL_CLK_VARIANT_1
designator U?, comment CTRL_CLK
CTRL_CLK_VARIANT_1; Value: *
pins: 1

## CTRL_DATA
designator U?
Value: *
pins: 1

## CTRL_DATA_VARIANT_1
designator U?, comment CTRL_DATA
CTRL_DATA_VARIANT_1; Value: *
pins: 1

## CTRL_OE
designator U?
Value: *
pins: 1

## CTRL_OE_VARIANT_1
designator U?, comment CTRL_OE
CTRL_OE_VARIANT_1; Value: *
pins: 1

## CTRL_RCLK
designator U?
Value: *
pins: 1

## CTRL_RCLK_VARIANT_1
designator U?, comment CTRL_RCLK
CTRL_RCLK_VARIANT_1; Value: *
pins: 1

## DIODE_1206
designator U?  (value not drawn)
Value: *
footprint DIO_1206
pins: 1 K, 2 A

## DIODE_1206_VARIANT_1
designator U?, comment DIODE_1206  (value not drawn)
DIODE_1206_VARIANT_1; Value: *
footprint DIO_1206
pins: 1 K, 2 A

## GND
designator U?
Value: *
pins: 1 GND

## GND_VARIANT_1
designator U?, comment GND
GND_VARIANT_1; Value: *
pins: 1 GND

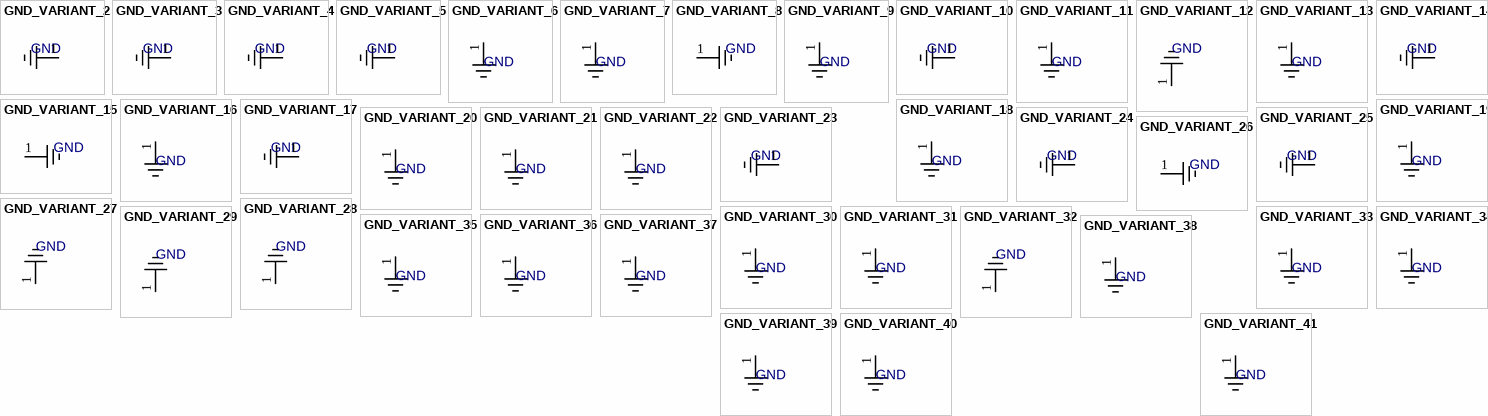
[diagram p6: symbols GND_VARIANT_2 to GND_VARIANT_41]

## GND_VARIANT_2
designator U?, comment GND
GND_VARIANT_2; Value: *
pins: 1 GND

## GND_VARIANT_3
designator U?, comment GND
GND_VARIANT_3; Value: *
pins: 1 GND

## GND_VARIANT_4
designator U?, comment GND
GND_VARIANT_4; Value: *
pins: 1 GND

## GND_VARIANT_5
designator U?, comment GND
GND_VARIANT_5; Value: *
pins: 1 GND

## GND_VARIANT_6
designator U?, comment GND
GND_VARIANT_6; Value: *
pins: 1 GND

## GND_VARIANT_7
designator U?, comment GND
GND_VARIANT_7; Value: *
pins: 1 GND

## GND_VARIANT_8
designator U?, comment GND
GND_VARIANT_8; Value: *
pins: 1 GND

## GND_VARIANT_9
designator U?, comment GND
GND_VARIANT_9; Value: *
pins: 1 GND

## GND_VARIANT_10
designator U?, comment GND
GND_VARIANT_10; Value: *
pins: 1 GND

## GND_VARIANT_11
designator U?, comment GND
GND_VARIANT_11; Value: *
pins: 1 GND

## GND_VARIANT_12
designator U?, comment GND
GND_VARIANT_12; Value: *
pins: 1 GND

## GND_VARIANT_13
designator U?, comment GND
GND_VARIANT_13; Value: *
pins: 1 GND

## GND_VARIANT_14
designator U?, comment GND
GND_VARIANT_14; Value: *
pins: 1 GND

## GND_VARIANT_15
designator U?, comment GND
GND_VARIANT_15; Value: *
pins: 1 GND

## GND_VARIANT_16
designator U?, comment GND
GND_VARIANT_16; Value: *
pins: 1 GND

## GND_VARIANT_17
designator U?, comment GND
GND_VARIANT_17; Value: *
pins: 1 GND

## GND_VARIANT_18
designator U?, comment GND
GND_VARIANT_18; Value: *
pins: 1 GND

## GND_VARIANT_19
designator U?, comment GND
GND_VARIANT_19; Value: *
pins: 1 GND

## GND_VARIANT_20
designator U?, comment GND
GND_VARIANT_20; Value: *
pins: 1 GND

## GND_VARIANT_21
designator U?, comment GND
GND_VARIANT_21; Value: *
pins: 1 GND

## GND_VARIANT_22
designator U?, comment GND
GND_VARIANT_22; Value: *
pins: 1 GND

## GND_VARIANT_23
designator U?, comment GND
GND_VARIANT_23; Value: *
pins: 1 GND

## GND_VARIANT_24
designator U?, comment GND
GND_VARIANT_24; Value: *
pins: 1 GND

## GND_VARIANT_25
designator U?, comment GND
GND_VARIANT_25; Value: *
pins: 1 GND

## GND_VARIANT_26
designator U?, comment GND
GND_VARIANT_26; Value: *
pins: 1 GND

## GND_VARIANT_27
designator U?, comment GND
GND_VARIANT_27; Value: *
pins: 1 GND

## GND_VARIANT_28
designator U?, comment GND
GND_VARIANT_28; Value: *
pins: 1 GND

## GND_VARIANT_29
designator U?, comment GND
GND_VARIANT_29; Value: *
pins: 1 GND

## GND_VARIANT_30
designator U?, comment GND
GND_VARIANT_30; Value: *
pins: 1 GND

## GND_VARIANT_31
designator U?, comment GND
GND_VARIANT_31; Value: *
pins: 1 GND

## GND_VARIANT_32
designator U?, comment GND
GND_VARIANT_32; Value: *
pins: 1 GND

## GND_VARIANT_33
designator U?, comment GND
GND_VARIANT_33; Value: *
pins: 1 GND

## GND_VARIANT_34
designator U?, comment GND
GND_VARIANT_34; Value: *
pins: 1 GND

## GND_VARIANT_35
designator U?, comment GND
GND_VARIANT_35; Value: *
pins: 1 GND

## GND_VARIANT_36
designator U?, comment GND
GND_VARIANT_36; Value: *
pins: 1 GND

## GND_VARIANT_37
designator U?, comment GND
GND_VARIANT_37; Value: *
pins: 1 GND

## GND_VARIANT_38
designator U?, comment GND
GND_VARIANT_38; Value: *
pins: 1 GND

## GND_VARIANT_39
designator U?, comment GND
GND_VARIANT_39; Value: *
pins: 1 GND

## GND_VARIANT_40
designator U?, comment GND
GND_VARIANT_40; Value: *
pins: 1 GND

## GND_VARIANT_41
designator U?, comment GND
GND_VARIANT_41; Value: *
pins: 1 GND

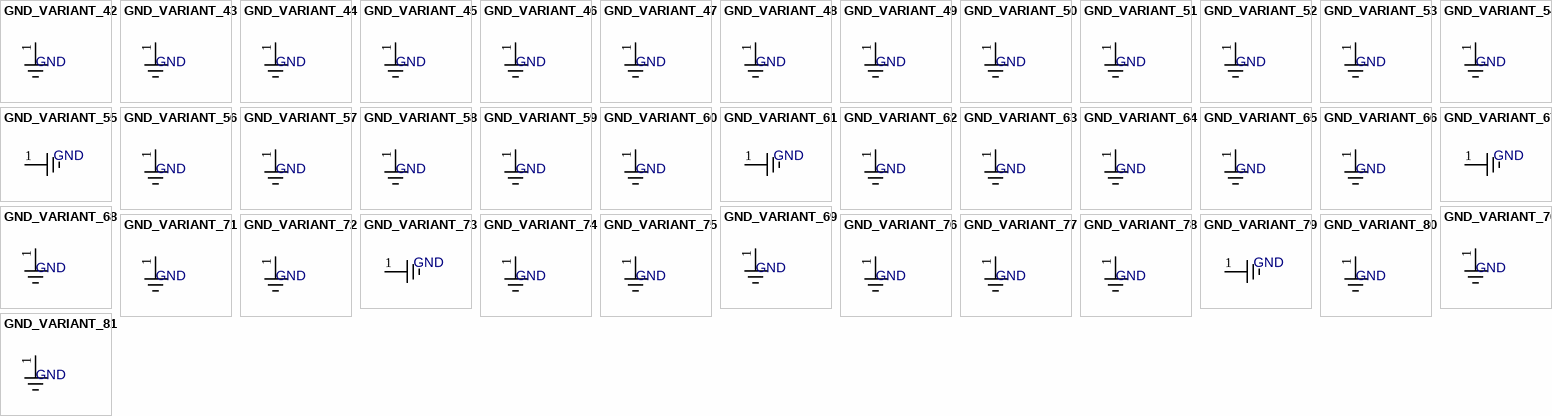
[diagram p7: symbols GND_VARIANT_42 to GND_VARIANT_81]

## GND_VARIANT_42
designator U?, comment GND
GND_VARIANT_42; Value: *
pins: 1 GND

## GND_VARIANT_43
designator U?, comment GND
GND_VARIANT_43; Value: *
pins: 1 GND

## GND_VARIANT_44
designator U?, comment GND
GND_VARIANT_44; Value: *
pins: 1 GND

## GND_VARIANT_45
designator U?, comment GND
GND_VARIANT_45; Value: *
pins: 1 GND

## GND_VARIANT_46
designator U?, comment GND
GND_VARIANT_46; Value: *
pins: 1 GND

## GND_VARIANT_47
designator U?, comment GND
GND_VARIANT_47; Value: *
pins: 1 GND

## GND_VARIANT_48
designator U?, comment GND
GND_VARIANT_48; Value: *
pins: 1 GND

## GND_VARIANT_49
designator U?, comment GND
GND_VARIANT_49; Value: *
pins: 1 GND

## GND_VARIANT_50
designator U?, comment GND
GND_VARIANT_50; Value: *
pins: 1 GND

## GND_VARIANT_51
designator U?, comment GND
GND_VARIANT_51; Value: *
pins: 1 GND

## GND_VARIANT_52
designator U?, comment GND
GND_VARIANT_52; Value: *
pins: 1 GND

## GND_VARIANT_53
designator U?, comment GND
GND_VARIANT_53; Value: *
pins: 1 GND

## GND_VARIANT_54
designator U?, comment GND
GND_VARIANT_54; Value: *
pins: 1 GND

## GND_VARIANT_55
designator U?, comment GND
GND_VARIANT_55; Value: *
pins: 1 GND

## GND_VARIANT_56
designator U?, comment GND
GND_VARIANT_56; Value: *
pins: 1 GND

## GND_VARIANT_57
designator U?, comment GND
GND_VARIANT_57; Value: *
pins: 1 GND

## GND_VARIANT_58
designator U?, comment GND
GND_VARIANT_58; Value: *
pins: 1 GND

## GND_VARIANT_59
designator U?, comment GND
GND_VARIANT_59; Value: *
pins: 1 GND

## GND_VARIANT_60
designator U?, comment GND
GND_VARIANT_60; Value: *
pins: 1 GND

## GND_VARIANT_61
designator U?, comment GND
GND_VARIANT_61; Value: *
pins: 1 GND

## GND_VARIANT_62
designator U?, comment GND
GND_VARIANT_62; Value: *
pins: 1 GND

## GND_VARIANT_63
designator U?, comment GND
GND_VARIANT_63; Value: *
pins: 1 GND

## GND_VARIANT_64
designator U?, comment GND
GND_VARIANT_64; Value: *
pins: 1 GND

## GND_VARIANT_65
designator U?, comment GND
GND_VARIANT_65; Value: *
pins: 1 GND

## GND_VARIANT_66
designator U?, comment GND
GND_VARIANT_66; Value: *
pins: 1 GND

## GND_VARIANT_67
designator U?, comment GND
GND_VARIANT_67; Value: *
pins: 1 GND

## GND_VARIANT_68
designator U?, comment GND
GND_VARIANT_68; Value: *
pins: 1 GND

## GND_VARIANT_69
designator U?, comment GND
GND_VARIANT_69; Value: *
pins: 1 GND

## GND_VARIANT_70
designator U?, comment GND
GND_VARIANT_70; Value: *
pins: 1 GND

## GND_VARIANT_71
designator U?, comment GND
GND_VARIANT_71; Value: *
pins: 1 GND

## GND_VARIANT_72
designator U?, comment GND
GND_VARIANT_72; Value: *
pins: 1 GND

## GND_VARIANT_73
designator U?, comment GND
GND_VARIANT_73; Value: *
pins: 1 GND

## GND_VARIANT_74
designator U?, comment GND
GND_VARIANT_74; Value: *
pins: 1 GND

## GND_VARIANT_75
designator U?, comment GND
GND_VARIANT_75; Value: *
pins: 1 GND

## GND_VARIANT_76
designator U?, comment GND
GND_VARIANT_76; Value: *
pins: 1 GND

## GND_VARIANT_77
designator U?, comment GND
GND_VARIANT_77; Value: *
pins: 1 GND

## GND_VARIANT_78
designator U?, comment GND
GND_VARIANT_78; Value: *
pins: 1 GND

## GND_VARIANT_79
designator U?, comment GND
GND_VARIANT_79; Value: *
pins: 1 GND

## GND_VARIANT_80
designator U?, comment GND
GND_VARIANT_80; Value: *
pins: 1 GND

## GND_VARIANT_81
designator U?, comment GND
GND_VARIANT_81; Value: *
pins: 1 GND

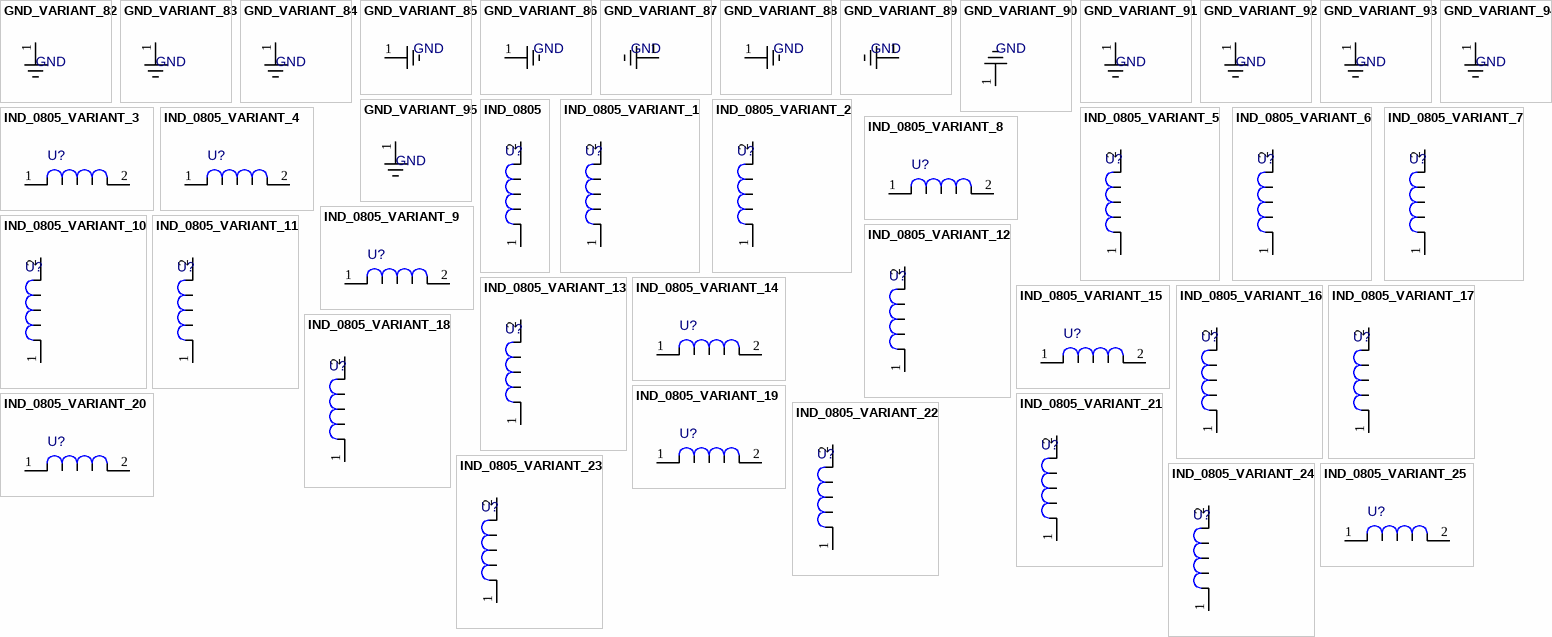
[diagram p8: symbols GND_VARIANT_82 to IND_0805_VARIANT_25]

## GND_VARIANT_82
designator U?, comment GND
GND_VARIANT_82; Value: *
pins: 1 GND

## GND_VARIANT_83
designator U?, comment GND
GND_VARIANT_83; Value: *
pins: 1 GND

## GND_VARIANT_84
designator U?, comment GND
GND_VARIANT_84; Value: *
pins: 1 GND

## GND_VARIANT_85
designator U?, comment GND
GND_VARIANT_85; Value: *
pins: 1 GND

## GND_VARIANT_86
designator U?, comment GND
GND_VARIANT_86; Value: *
pins: 1 GND

## GND_VARIANT_87
designator U?, comment GND
GND_VARIANT_87; Value: *
pins: 1 GND

## GND_VARIANT_88
designator U?, comment GND
GND_VARIANT_88; Value: *
pins: 1 GND

## GND_VARIANT_89
designator U?, comment GND
GND_VARIANT_89; Value: *
pins: 1 GND

## GND_VARIANT_90
designator U?, comment GND
GND_VARIANT_90; Value: *
pins: 1 GND

## GND_VARIANT_91
designator U?, comment GND
GND_VARIANT_91; Value: *
pins: 1 GND

## GND_VARIANT_92
designator U?, comment GND
GND_VARIANT_92; Value: *
pins: 1 GND

## GND_VARIANT_93
designator U?, comment GND
GND_VARIANT_93; Value: *
pins: 1 GND

## GND_VARIANT_94
designator U?, comment GND
GND_VARIANT_94; Value: *
pins: 1 GND

## GND_VARIANT_95
designator U?, comment GND
GND_VARIANT_95; Value: *
pins: 1 GND

## IND_0805
designator U?  (value not drawn)
Value: *
footprint IND_0805
pins: 1, 2

## IND_0805_VARIANT_1
designator U?, comment IND_0805  (value not drawn)
IND_0805_VARIANT_1; Value: *
footprint IND_0805
pins: 1, 2

## IND_0805_VARIANT_2
designator U?, comment IND_0805  (value not drawn)
IND_0805_VARIANT_2; Value: *
footprint IND_0805
pins: 1, 2

## IND_0805_VARIANT_3
designator U?, comment IND_0805  (value not drawn)
IND_0805_VARIANT_3; Value: *
footprint IND_0805
pins: 1, 2

## IND_0805_VARIANT_4
designator U?, comment IND_0805  (value not drawn)
IND_0805_VARIANT_4; Value: *
footprint IND_0805
pins: 1, 2

## IND_0805_VARIANT_5
designator U?, comment IND_0805  (value not drawn)
IND_0805_VARIANT_5; Value: *
footprint IND_0805
pins: 1, 2

## IND_0805_VARIANT_6
designator U?, comment IND_0805  (value not drawn)
IND_0805_VARIANT_6; Value: *
footprint IND_0805
pins: 1, 2

## IND_0805_VARIANT_7
designator U?, comment IND_0805  (value not drawn)
IND_0805_VARIANT_7; Value: *
footprint IND_0805
pins: 1, 2

## IND_0805_VARIANT_8
designator U?, comment IND_0805  (value not drawn)
IND_0805_VARIANT_8; Value: *
footprint IND_0805
pins: 1, 2

## IND_0805_VARIANT_9
designator U?, comment IND_0805  (value not drawn)
IND_0805_VARIANT_9; Value: *
footprint IND_0805
pins: 1, 2

## IND_0805_VARIANT_10
designator U?, comment IND_0805  (value not drawn)
IND_0805_VARIANT_10; Value: *
footprint IND_0805
pins: 1, 2

## IND_0805_VARIANT_11
designator U?, comment IND_0805  (value not drawn)
IND_0805_VARIANT_11; Value: *
footprint IND_0805
pins: 1, 2

## IND_0805_VARIANT_12
designator U?, comment IND_0805  (value not drawn)
IND_0805_VARIANT_12; Value: *
footprint IND_0805
pins: 1, 2

## IND_0805_VARIANT_13
designator U?, comment IND_0805  (value not drawn)
IND_0805_VARIANT_13; Value: *
footprint IND_0805
pins: 1, 2

## IND_0805_VARIANT_14
designator U?, comment IND_0805  (value not drawn)
IND_0805_VARIANT_14; Value: *
footprint IND_0805
pins: 1, 2

## IND_0805_VARIANT_15
designator U?, comment IND_0805  (value not drawn)
IND_0805_VARIANT_15; Value: *
footprint IND_0805
pins: 1, 2

## IND_0805_VARIANT_16
designator U?, comment IND_0805  (value not drawn)
IND_0805_VARIANT_16; Value: *
footprint IND_0805
pins: 1, 2

## IND_0805_VARIANT_17
designator U?, comment IND_0805  (value not drawn)
IND_0805_VARIANT_17; Value: *
footprint IND_0805
pins: 1, 2

## IND_0805_VARIANT_18
designator U?, comment IND_0805  (value not drawn)
IND_0805_VARIANT_18; Value: *
footprint IND_0805
pins: 1, 2

## IND_0805_VARIANT_19
designator U?, comment IND_0805  (value not drawn)
IND_0805_VARIANT_19; Value: *
footprint IND_0805
pins: 1, 2

## IND_0805_VARIANT_20
designator U?, comment IND_0805  (value not drawn)
IND_0805_VARIANT_20; Value: *
footprint IND_0805
pins: 1, 2

## IND_0805_VARIANT_21
designator U?, comment IND_0805  (value not drawn)
IND_0805_VARIANT_21; Value: *
footprint IND_0805
pins: 1, 2

## IND_0805_VARIANT_22
designator U?, comment IND_0805  (value not drawn)
IND_0805_VARIANT_22; Value: *
footprint IND_0805
pins: 1, 2

## IND_0805_VARIANT_23
designator U?, comment IND_0805  (value not drawn)
IND_0805_VARIANT_23; Value: *
footprint IND_0805
pins: 1, 2

## IND_0805_VARIANT_24
designator U?, comment IND_0805  (value not drawn)
IND_0805_VARIANT_24; Value: *
footprint IND_0805
pins: 1, 2

## IND_0805_VARIANT_25
designator U?, comment IND_0805  (value not drawn)
IND_0805_VARIANT_25; Value: *
footprint IND_0805
pins: 1, 2

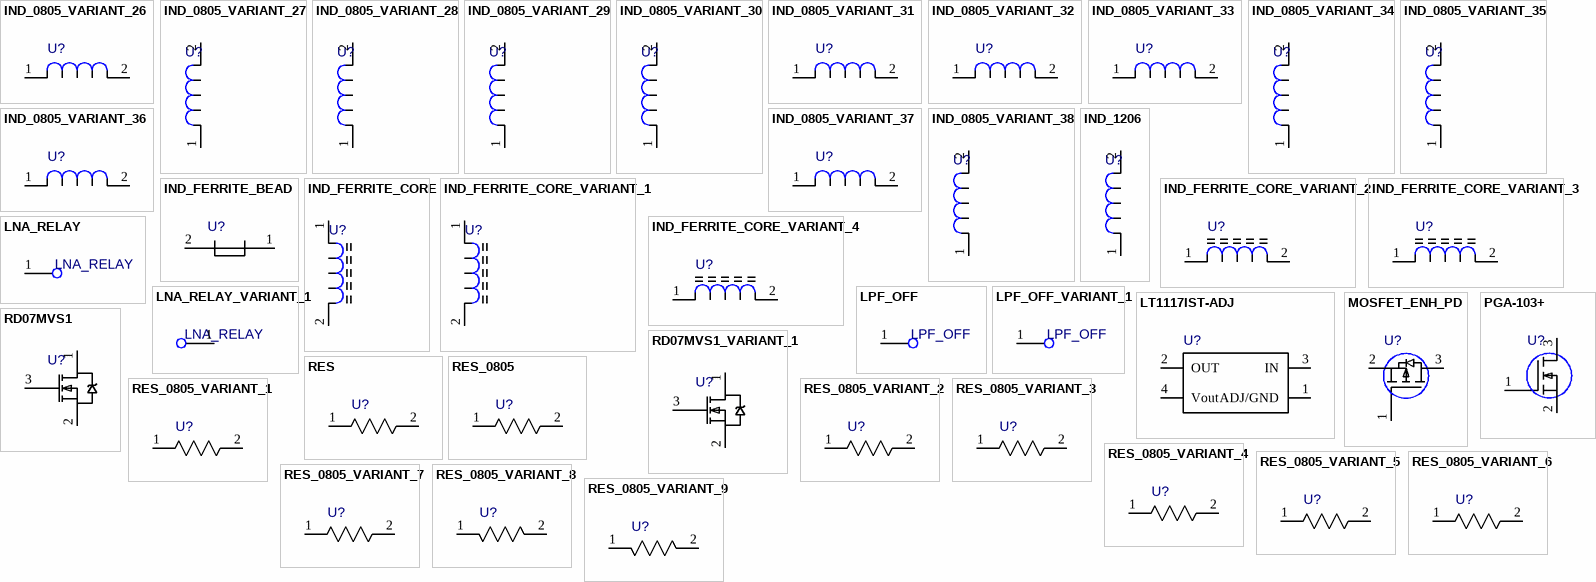
[diagram p9: symbols IND_0805_VARIANT_26 to RES_0805_VARIANT_9]

## IND_0805_VARIANT_26
designator U?, comment IND_0805  (value not drawn)
IND_0805_VARIANT_26; Value: *
footprint IND_0805
pins: 1, 2

## IND_0805_VARIANT_27
designator U?, comment IND_0805  (value not drawn)
IND_0805_VARIANT_27; Value: *
footprint IND_0805
pins: 1, 2

## IND_0805_VARIANT_28
designator U?, comment IND_0805  (value not drawn)
IND_0805_VARIANT_28; Value: *
footprint IND_0805
pins: 1, 2

## IND_0805_VARIANT_29
designator U?, comment IND_0805  (value not drawn)
IND_0805_VARIANT_29; Value: *
footprint IND_0805
pins: 1, 2

## IND_0805_VARIANT_30
designator U?, comment IND_0805  (value not drawn)
IND_0805_VARIANT_30; Value: *
footprint IND_0805
pins: 1, 2

## IND_0805_VARIANT_31
designator U?, comment IND_0805  (value not drawn)
IND_0805_VARIANT_31; Value: *
footprint IND_0805
pins: 1, 2

## IND_0805_VARIANT_32
designator U?, comment IND_0805  (value not drawn)
IND_0805_VARIANT_32; Value: *
footprint IND_0805
pins: 1, 2

## IND_0805_VARIANT_33
designator U?, comment IND_0805  (value not drawn)
IND_0805_VARIANT_33; Value: *
footprint IND_0805
pins: 1, 2

## IND_0805_VARIANT_34
designator U?, comment IND_0805  (value not drawn)
IND_0805_VARIANT_34; Value: *
footprint IND_0805
pins: 1, 2

## IND_0805_VARIANT_35
designator U?, comment IND_0805  (value not drawn)
IND_0805_VARIANT_35; Value: *
footprint IND_0805
pins: 1, 2

## IND_0805_VARIANT_36
designator U?, comment IND_0805  (value not drawn)
IND_0805_VARIANT_36; Value: *
footprint IND_0805
pins: 1, 2

## IND_0805_VARIANT_37
designator U?, comment IND_0805  (value not drawn)
IND_0805_VARIANT_37; Value: *
footprint IND_0805
pins: 1, 2

## IND_0805_VARIANT_38
designator U?, comment IND_0805  (value not drawn)
IND_0805_VARIANT_38; Value: *
footprint IND_0805
pins: 1, 2

## IND_1206
designator U?  (value not drawn)
Value: *
footprint IND_1206
pins: 1, 2

## IND_FERRITE_BEAD
designator U?  (value not drawn)
Value: *
footprint RES-6.5/3.4x1.9
pins: 1, 2

## IND_FERRITE_CORE
designator U?  (value not drawn)
Value: *
footprint B82464Z4
pins: 1 A, 2 B

## IND_FERRITE_CORE_VARIANT_1
designator U?, comment IND_FERRITE_CORE  (value not drawn)
IND_FERRITE_CORE_VARIANT_1; Value: *
footprint B82464Z4
pins: 1 A, 2 B

## IND_FERRITE_CORE_VARIANT_2
designator U?, comment IND_FERRITE_CORE  (value not drawn)
IND_FERRITE_CORE_VARIANT_2; Value: *
footprint B82464Z4
pins: 1 A, 2 B

## IND_FERRITE_CORE_VARIANT_3
designator U?, comment IND_FERRITE_CORE  (value not drawn)
IND_FERRITE_CORE_VARIANT_3; Value: *
footprint CAP-8.9/13x3
pins: 1 A, 2 B

## IND_FERRITE_CORE_VARIANT_4
designator U?, comment IND_FERRITE_CORE  (value not drawn)
IND_FERRITE_CORE_VARIANT_4; Value: *
footprint CAP-8.9/13x3
pins: 1 A, 2 B

## LNA_RELAY
designator U?
Value: *
pins: 1

## LNA_RELAY_VARIANT_1
designator U?, comment LNA_RELAY
LNA_RELAY_VARIANT_1; Value: *
pins: 1

## LPF_OFF
designator U?
Value: *
pins: 1

## LPF_OFF_VARIANT_1
designator U?, comment LPF_OFF
LPF_OFF_VARIANT_1; Value: *
pins: 1

## LT1117IST-ADJ
designator U?  (value not drawn)
Value: *
footprint SOT223-4
pins: 1 ADJ/GND, 2 OUT, 3 IN, 4 Vout

## MOSFET_ENH_PD
designator U?  (value not drawn)
Value: *
footprint SOT23
pins: 1 G, 2 S, 3 D

## PGA-103+
designator U?  (value not drawn)
Value: *
footprint SOT89
pins: 1 G, 2 S, 3 D

## RD07MVS1
designator U?  (value not drawn)
Value: *
footprint RD07MVS1
pins: 1 D, 2 S, 3 G

## RD07MVS1_VARIANT_1
designator U?, comment RD07MVS1  (value not drawn)
RD07MVS1_VARIANT_1; Value: *
footprint RD07MVS1
pins: 1 D, 2 S, 3 G

## RES
designator U?  (value not drawn)
Value: *
footprint RES-6.5/3.4x1.9
pins: 1 A, 2 B

## RES_0805
designator U?  (value not drawn)
Value: *
footprint RES_0805
pins: 1, 2

## RES_0805_VARIANT_1
designator U?, comment RES_0805  (value not drawn)
RES_0805_VARIANT_1; Value: *
footprint RES_0805
pins: 1, 2

## RES_0805_VARIANT_2
designator U?, comment RES_0805  (value not drawn)
RES_0805_VARIANT_2; Value: *
footprint RES_0805
pins: 1, 2

## RES_0805_VARIANT_3
designator U?, comment RES_0805  (value not drawn)
RES_0805_VARIANT_3; Value: *
footprint RES_0805
pins: 1, 2

## RES_0805_VARIANT_4
designator U?, comment RES_0805  (value not drawn)
RES_0805_VARIANT_4; Value: *
footprint RES_0805
pins: 1, 2

## RES_0805_VARIANT_5
designator U?, comment RES_0805  (value not drawn)
RES_0805_VARIANT_5; Value: *
footprint RES_0805
pins: 1, 2

## RES_0805_VARIANT_6
designator U?, comment RES_0805  (value not drawn)
RES_0805_VARIANT_6; Value: *
footprint RES_0805
pins: 1, 2

## RES_0805_VARIANT_7
designator U?, comment RES_0805  (value not drawn)
RES_0805_VARIANT_7; Value: *
footprint RES_0805
pins: 1, 2

## RES_0805_VARIANT_8
designator U?, comment RES_0805  (value not drawn)
RES_0805_VARIANT_8; Value: *
footprint RES_0805
pins: 1, 2

## RES_0805_VARIANT_9
designator U?, comment RES_0805  (value not drawn)
RES_0805_VARIANT_9; Value: *
footprint RES_0805
pins: 1, 2

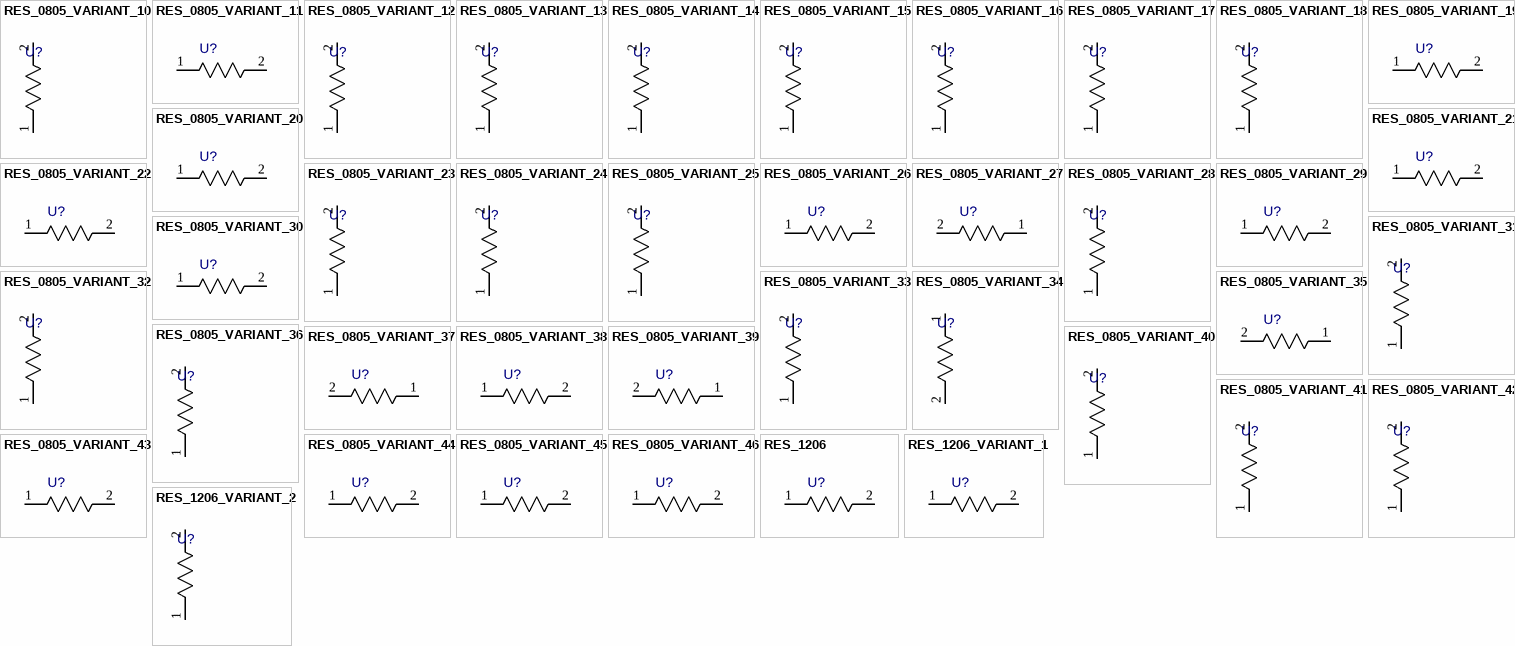
[diagram p10: symbols RES_0805_VARIANT_10 to RES_1206_VARIANT_2]

## RES_0805_VARIANT_10
designator U?, comment RES_0805  (value not drawn)
RES_0805_VARIANT_10; Value: *
footprint RES_0805
pins: 1, 2

## RES_0805_VARIANT_11
designator U?, comment RES_0805  (value not drawn)
RES_0805_VARIANT_11; Value: *
footprint RES_0805
pins: 1, 2

## RES_0805_VARIANT_12
designator U?, comment RES_0805  (value not drawn)
RES_0805_VARIANT_12; Value: *
footprint RES_0805
pins: 1, 2

## RES_0805_VARIANT_13
designator U?, comment RES_0805  (value not drawn)
RES_0805_VARIANT_13; Value: *
footprint RES_0805
pins: 1, 2

## RES_0805_VARIANT_14
designator U?, comment RES_0805  (value not drawn)
RES_0805_VARIANT_14; Value: *
footprint RES_0805
pins: 1, 2

## RES_0805_VARIANT_15
designator U?, comment RES_0805  (value not drawn)
RES_0805_VARIANT_15; Value: *
footprint RES_0805
pins: 1, 2

## RES_0805_VARIANT_16
designator U?, comment RES_0805  (value not drawn)
RES_0805_VARIANT_16; Value: *
footprint RES_0805
pins: 1, 2

## RES_0805_VARIANT_17
designator U?, comment RES_0805  (value not drawn)
RES_0805_VARIANT_17; Value: *
footprint RES_0805
pins: 1, 2

## RES_0805_VARIANT_18
designator U?, comment RES_0805  (value not drawn)
RES_0805_VARIANT_18; Value: *
footprint RES_0805
pins: 1, 2

## RES_0805_VARIANT_19
designator U?, comment RES_0805  (value not drawn)
RES_0805_VARIANT_19; Value: *
footprint RES_0805
pins: 1, 2

## RES_0805_VARIANT_20
designator U?, comment RES_0805  (value not drawn)
RES_0805_VARIANT_20; Value: *
footprint RES_0805
pins: 1, 2

## RES_0805_VARIANT_21
designator U?, comment RES_0805  (value not drawn)
RES_0805_VARIANT_21; Value: *
footprint RES_0805
pins: 1, 2

## RES_0805_VARIANT_22
designator U?, comment RES_0805  (value not drawn)
RES_0805_VARIANT_22; Value: *
footprint RES_0805
pins: 1, 2

## RES_0805_VARIANT_23
designator U?, comment RES_0805  (value not drawn)
RES_0805_VARIANT_23; Value: *
footprint RES_0805
pins: 1, 2

## RES_0805_VARIANT_24
designator U?, comment RES_0805  (value not drawn)
RES_0805_VARIANT_24; Value: *
footprint RES_0805
pins: 1, 2

## RES_0805_VARIANT_25
designator U?, comment RES_0805  (value not drawn)
RES_0805_VARIANT_25; Value: *
footprint RES_0805
pins: 1, 2

## RES_0805_VARIANT_26
designator U?, comment RES_0805  (value not drawn)
RES_0805_VARIANT_26; Value: *
footprint RES_0805
pins: 1, 2

## RES_0805_VARIANT_27
designator U?, comment RES_0805  (value not drawn)
RES_0805_VARIANT_27; Value: *
footprint RES_0805
pins: 1, 2

## RES_0805_VARIANT_28
designator U?, comment RES_0805  (value not drawn)
RES_0805_VARIANT_28; Value: *
footprint RES_0805
pins: 1, 2

## RES_0805_VARIANT_29
designator U?, comment RES_0805  (value not drawn)
RES_0805_VARIANT_29; Value: *
footprint RES_0805
pins: 1, 2

## RES_0805_VARIANT_30
designator U?, comment RES_0805  (value not drawn)
RES_0805_VARIANT_30; Value: *
footprint RES_0805
pins: 1, 2

## RES_0805_VARIANT_31
designator U?, comment RES_0805  (value not drawn)
RES_0805_VARIANT_31; Value: *
footprint RES_0805
pins: 1, 2

## RES_0805_VARIANT_32
designator U?, comment RES_0805  (value not drawn)
RES_0805_VARIANT_32; Value: *
footprint RES_0805
pins: 1, 2

## RES_0805_VARIANT_33
designator U?, comment RES_0805  (value not drawn)
RES_0805_VARIANT_33; Value: *
footprint RES_0805
pins: 1, 2

## RES_0805_VARIANT_34
designator U?, comment RES_0805  (value not drawn)
RES_0805_VARIANT_34; Value: *
footprint RES_0805
pins: 1, 2

## RES_0805_VARIANT_35
designator U?, comment RES_0805  (value not drawn)
RES_0805_VARIANT_35; Value: *
footprint RES_0805
pins: 1, 2

## RES_0805_VARIANT_36
designator U?, comment RES_0805  (value not drawn)
RES_0805_VARIANT_36; Value: *
footprint RES_0805
pins: 1, 2

## RES_0805_VARIANT_37
designator U?, comment RES_0805  (value not drawn)
RES_0805_VARIANT_37; Value: *
footprint RES_0805
pins: 1, 2

## RES_0805_VARIANT_38
designator U?, comment RES_0805  (value not drawn)
RES_0805_VARIANT_38; Value: *
footprint RES_0805
pins: 1, 2

## RES_0805_VARIANT_39
designator U?, comment RES_0805  (value not drawn)
RES_0805_VARIANT_39; Value: *
footprint RES_0805
pins: 1, 2

## RES_0805_VARIANT_40
designator U?, comment RES_0805  (value not drawn)
RES_0805_VARIANT_40; Value: *
footprint RES_0805
pins: 1, 2

## RES_0805_VARIANT_41
designator U?, comment RES_0805  (value not drawn)
RES_0805_VARIANT_41; Value: *
footprint RES_0805
pins: 1, 2

## RES_0805_VARIANT_42
designator U?, comment RES_0805  (value not drawn)
RES_0805_VARIANT_42; Value: *
footprint RES_0805
pins: 1, 2

## RES_0805_VARIANT_43
designator U?, comment RES_0805  (value not drawn)
RES_0805_VARIANT_43; Value: *
footprint RES_0805
pins: 1, 2

## RES_0805_VARIANT_44
designator U?, comment RES_0805  (value not drawn)
RES_0805_VARIANT_44; Value: *
footprint RES_0805
pins: 1, 2